# Altium integrated library TI Power Management Battery Management.IntLib: 949 symbols (part 58 of 62)
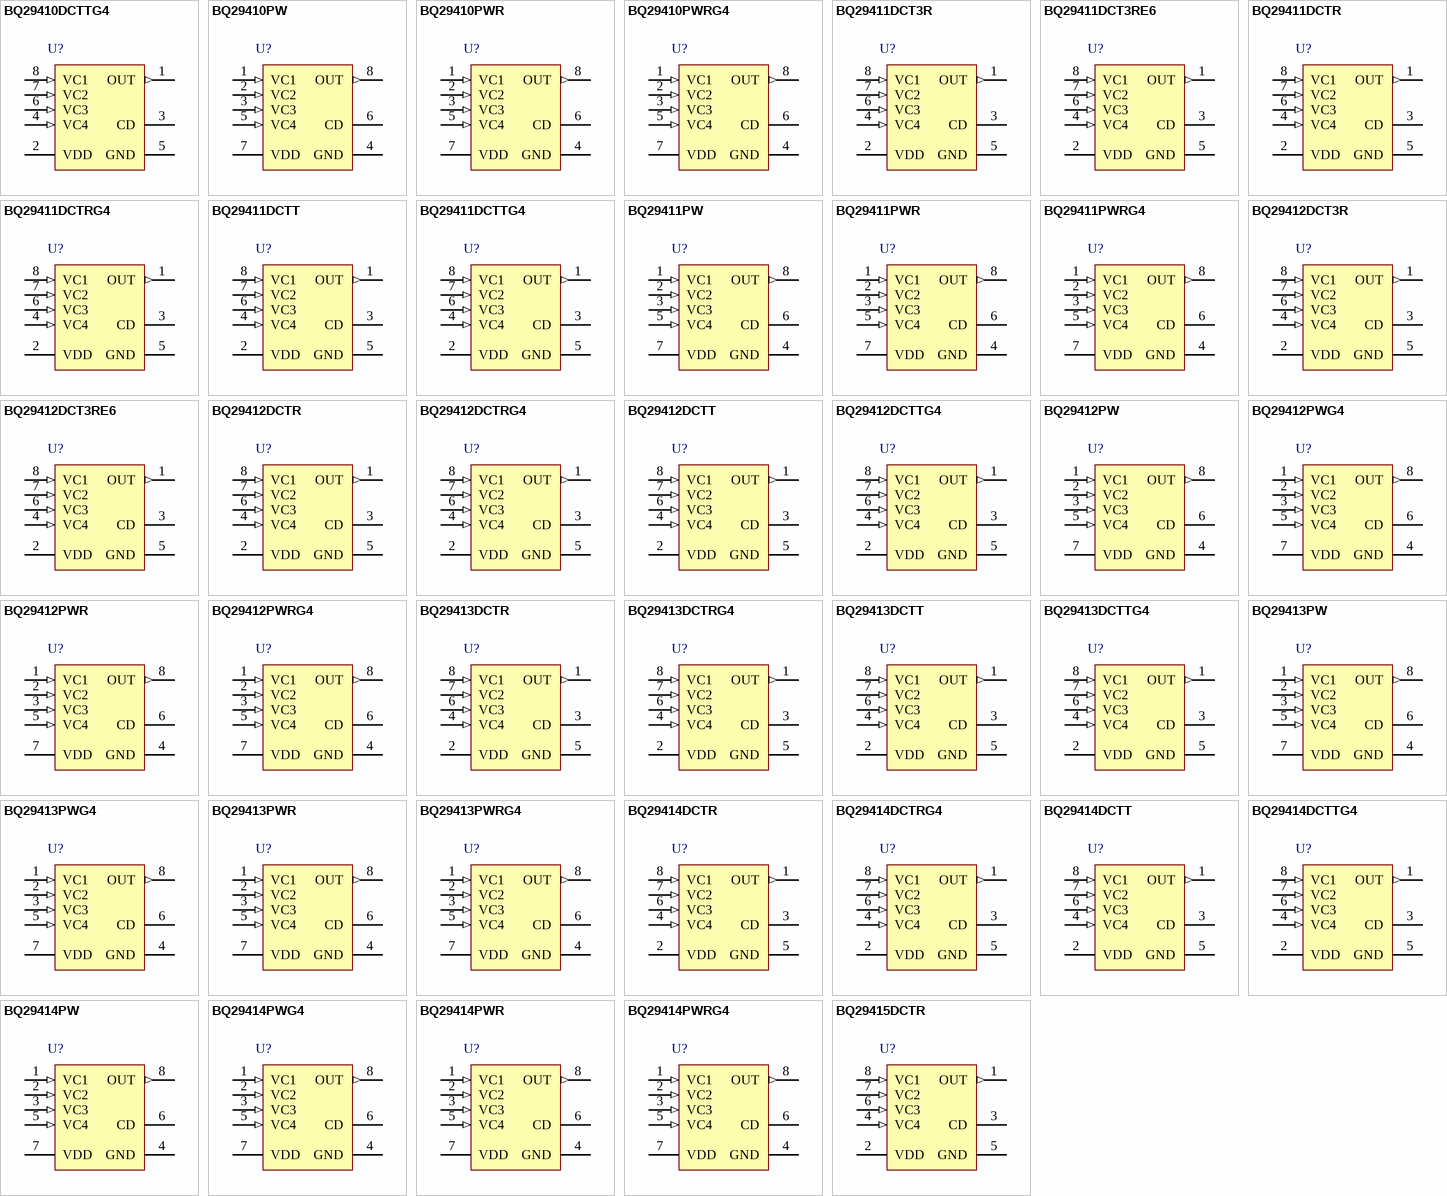
[diagram p91: symbols BQ29410DCTTG4 to BQ29415DCTR]

## BQ29412DCT3RE6
designator U?
Secondary Over Voltage Protection for 2 to 4 Cell in Series Li-Ion / Poly (4.45 V), -40 to 110 degC, 8-pin SM8 (DCT), Pb-Free (RoHS); PartNumber: BQ29412DCT3RE6; Manufacturer: Texas Instruments; Lead Acid: N; Li-Ion: Y; SubFamily: Lithium Ion Protection; DatasheetVersion: SLUS669G; PackageVersion: revC, Sep-2002; PackageReference: DCT8; PackageDescription: 8-Pin Thin Small Outline Package 3 x 2.8 mm Body ,0.65 mm Pitch; Supplier 1: Digi-Key; Supplier Part Number 1: BQ29412DCT3RE6-ND; Supplier 2: Newark; Supplier Part Number 2: 30M3435; Supplier 3: Mouser; Supplier Part Number 3: 595-BQ29412DCT3RE6; Eco-Plan: Pb-Free (RoHS); Li-Polymer: Y; NiCd: N; NiMH: N; Over Voltage Protection: Y; Mounting Technology: Surface Mount; Code_JEDEC: MO-187-DA; ComponentLink1Description: Datasheet; ComponentLink1URL: http://www.ti.com/general/docs/lit/getliterature.tsp?genericPartNumber=BQ29412&fileType=pdf
footprint DCT8_N (TSOP, 8-Leads, Body 3x2.8mm, Pitch 0.65mm, IPC Medium Density)
footprint DCT8_L (TSOP, 8-Leads, Body 3x2.8mm, Pitch 0.65mm, IPC High Density)
footprint DCT8_M (TSOP, 8-Leads, Body 3x2.8mm, Pitch 0.65mm, IPC Low Density)
pins: 1 OUT (out) "Output", 2 VDD (power) "Power supply", 3 CD "An external capacitor is connected to determine the programmable delay time", 4 VC4 (in) "Sense voltage input for least positive cell", 5 GND (power) "Ground pin", 6 VC3 (in) "Sense voltage input for third most positive cell", 7 VC2 (in) "Sense voltage input for second most positive cell", 8 VC1 (in) "Sense voltage input for most positive cell"

## BQ29412DCTR
designator U?
Secondary Over Voltage Protection for 2 to 4 Cell in Series Li-Ion / Poly (4.45 V), -40 to 110 degC, 8-pin SM8 (DCT), Green (RoHS & no Sb/Br); PartNumber: BQ29412DCTR; Manufacturer: Texas Instruments; Lead Acid: N; Li-Ion: Y; SubFamily: Lithium Ion Protection; DatasheetVersion: SLUS669G; PackageVersion: revC, Sep-2002; PackageReference: DCT8; PackageDescription: 8-Pin Thin Small Outline Package 3 x 2.8 mm Body ,0.65 mm Pitch; Supplier 1: Digi-Key; Supplier Part Number 1: 296-21723-2-ND; Supplier 2: Digi-Key; Supplier Part Number 2: 296-21723-1-ND; Supplier 3: Digi-Key; Supplier Part Number 3: 296-21723-6-ND; Supplier 4: Newark; Supplier Part Number 4: 21M9466; Supplier 5: Mouser; Supplier Part Number 5: 595-BQ29412DCTR; Eco-Plan: Green (RoHS & no Sb/Br); Li-Polymer: Y; NiCd: N; NiMH: N; Over Voltage Protection: Y; Mounting Technology: Surface Mount; Code_JEDEC: MO-187-DA; ComponentLink1Description: Datasheet; ComponentLink1URL: http://www.ti.com/general/docs/lit/getliterature.tsp?genericPartNumber=BQ29412&fileType=pdf
footprint DCT8_N (TSOP, 8-Leads, Body 3x2.8mm, Pitch 0.65mm, IPC Medium Density)
footprint DCT8_L (TSOP, 8-Leads, Body 3x2.8mm, Pitch 0.65mm, IPC High Density)
footprint DCT8_M (TSOP, 8-Leads, Body 3x2.8mm, Pitch 0.65mm, IPC Low Density)
pins: 1 OUT (out) "Output", 2 VDD (power) "Power supply", 3 CD "An external capacitor is connected to determine the programmable delay time", 4 VC4 (in) "Sense voltage input for least positive cell", 5 GND (power) "Ground pin", 6 VC3 (in) "Sense voltage input for third most positive cell", 7 VC2 (in) "Sense voltage input for second most positive cell", 8 VC1 (in) "Sense voltage input for most positive cell"

## BQ29412DCTRG4
designator U?
Secondary Over Voltage Protection for 2 to 4 Cell in Series Li-Ion / Poly (4.45 V), -40 to 110 degC, 8-pin SM8 (DCT), Green (RoHS & no Sb/Br); PartNumber: BQ29412DCTRG4; Manufacturer: Texas Instruments; Lead Acid: N; Li-Ion: Y; SubFamily: Lithium Ion Protection; DatasheetVersion: SLUS669G; PackageVersion: revC, Sep-2002; PackageReference: DCT8; PackageDescription: 8-Pin Thin Small Outline Package 3 x 2.8 mm Body ,0.65 mm Pitch; Supplier 1: Digi-Key; Supplier Part Number 1: BQ29412DCTRG4-ND; Supplier 2: Newark; Supplier Part Number 2: 27M2190; Supplier 3: Mouser; Supplier Part Number 3: 595-BQ29412DCTRG4; Eco-Plan: Green (RoHS & no Sb/Br); Li-Polymer: Y; NiCd: N; NiMH: N; Over Voltage Protection: Y; Mounting Technology: Surface Mount; Code_JEDEC: MO-187-DA; ComponentLink1Description: Datasheet; ComponentLink1URL: http://www.ti.com/general/docs/lit/getliterature.tsp?genericPartNumber=BQ29412&fileType=pdf
footprint DCT8_N (TSOP, 8-Leads, Body 3x2.8mm, Pitch 0.65mm, IPC Medium Density)
footprint DCT8_L (TSOP, 8-Leads, Body 3x2.8mm, Pitch 0.65mm, IPC High Density)
footprint DCT8_M (TSOP, 8-Leads, Body 3x2.8mm, Pitch 0.65mm, IPC Low Density)
pins: 1 OUT (out) "Output", 2 VDD (power) "Power supply", 3 CD "An external capacitor is connected to determine the programmable delay time", 4 VC4 (in) "Sense voltage input for least positive cell", 5 GND (power) "Ground pin", 6 VC3 (in) "Sense voltage input for third most positive cell", 7 VC2 (in) "Sense voltage input for second most positive cell", 8 VC1 (in) "Sense voltage input for most positive cell"

## BQ29412DCTT
designator U?
Secondary Over Voltage Protection for 2 to 4 Cell in Series Li-Ion / Poly (4.45 V), -40 to 110 degC, 8-pin SM8 (DCT), Green (RoHS & no Sb/Br); PartNumber: BQ29412DCTT; Manufacturer: Texas Instruments; Lead Acid: N; Li-Ion: Y; SubFamily: Lithium Ion Protection; DatasheetVersion: SLUS669G; PackageVersion: revC, Sep-2002; PackageReference: DCT8; PackageDescription: 8-Pin Thin Small Outline Package 3 x 2.8 mm Body ,0.65 mm Pitch; Supplier 1: Digi-Key; Supplier Part Number 1: 296-32040-2-ND; Supplier 2: Digi-Key; Supplier Part Number 2: 296-32040-1-ND; Supplier 3: Digi-Key; Supplier Part Number 3: 296-32040-6-ND; Supplier 4: Newark; Supplier Part Number 4: 21M9467; Supplier 5: Mouser; Supplier Part Number 5: 595-BQ29412DCTT; Eco-Plan: Green (RoHS & no Sb/Br); Li-Polymer: Y; NiCd: N; NiMH: N; Over Voltage Protection: Y; Mounting Technology: Surface Mount; Code_JEDEC: MO-187-DA; ComponentLink1Description: Datasheet; ComponentLink1URL: http://www.ti.com/general/docs/lit/getliterature.tsp?genericPartNumber=BQ29412&fileType=pdf
footprint DCT8_N (TSOP, 8-Leads, Body 3x2.8mm, Pitch 0.65mm, IPC Medium Density)
footprint DCT8_L (TSOP, 8-Leads, Body 3x2.8mm, Pitch 0.65mm, IPC High Density)
footprint DCT8_M (TSOP, 8-Leads, Body 3x2.8mm, Pitch 0.65mm, IPC Low Density)
pins: 1 OUT (out) "Output", 2 VDD (power) "Power supply", 3 CD "An external capacitor is connected to determine the programmable delay time", 4 VC4 (in) "Sense voltage input for least positive cell", 5 GND (power) "Ground pin", 6 VC3 (in) "Sense voltage input for third most positive cell", 7 VC2 (in) "Sense voltage input for second most positive cell", 8 VC1 (in) "Sense voltage input for most positive cell"

## BQ29412DCTTG4
designator U?
Secondary Over Voltage Protection for 2 to 4 Cell in Series Li-Ion / Poly (4.45 V), -40 to 110 degC, 8-pin SM8 (DCT), Green (RoHS & no Sb/Br); PartNumber: BQ29412DCTTG4; Manufacturer: Texas Instruments; Lead Acid: N; Li-Ion: Y; SubFamily: Lithium Ion Protection; DatasheetVersion: SLUS669G; PackageVersion: revC, Sep-2002; PackageReference: DCT8; PackageDescription: 8-Pin Thin Small Outline Package 3 x 2.8 mm Body ,0.65 mm Pitch; Supplier 1: Digi-Key; Supplier Part Number 1: BQ29412DCTTG4-ND; Supplier 2: Newark; Supplier Part Number 2: 26M8964; Supplier 3: Mouser; Supplier Part Number 3: 595-BQ29412DCTTG4; Eco-Plan: Green (RoHS & no Sb/Br); Li-Polymer: Y; NiCd: N; NiMH: N; Over Voltage Protection: Y; Mounting Technology: Surface Mount; Code_JEDEC: MO-187-DA; ComponentLink1Description: Datasheet; ComponentLink1URL: http://www.ti.com/general/docs/lit/getliterature.tsp?genericPartNumber=BQ29412&fileType=pdf
footprint DCT8_N (TSOP, 8-Leads, Body 3x2.8mm, Pitch 0.65mm, IPC Medium Density)
footprint DCT8_L (TSOP, 8-Leads, Body 3x2.8mm, Pitch 0.65mm, IPC High Density)
footprint DCT8_M (TSOP, 8-Leads, Body 3x2.8mm, Pitch 0.65mm, IPC Low Density)
pins: 1 OUT (out) "Output", 2 VDD (power) "Power supply", 3 CD "An external capacitor is connected to determine the programmable delay time", 4 VC4 (in) "Sense voltage input for least positive cell", 5 GND (power) "Ground pin", 6 VC3 (in) "Sense voltage input for third most positive cell", 7 VC2 (in) "Sense voltage input for second most positive cell", 8 VC1 (in) "Sense voltage input for most positive cell"

## BQ29412PW
designator U?
Secondary Over Voltage Protection for 2 to 4 Cell in Series Li-Ion / Poly (4.45 V), -40 to 110 degC, 8-pin TSSOP (PW), Green (RoHS & no Sb/Br); PartNumber: BQ29412PW; Manufacturer: Texas Instruments; Lead Acid: N; Li-Ion: Y; SubFamily: Lithium Ion Protection; DatasheetVersion: SLUS669G; PackageVersion: revG, Feb-2011; PackageReference: PW8; PackageDescription: 8-Pin Plastic Thin Small Outline Package 3 x 4.4 mm Body ,0.65 mm Pitch; Supplier 1: Digi-Key; Supplier Part Number 1: 296-19456-5-ND; Supplier 2: Newark; Supplier Part Number 2: 80K5711; Supplier 3: Mouser; Supplier Part Number 3: 595-BQ29412PW; Eco-Plan: Green (RoHS & no Sb/Br); Li-Polymer: Y; NiCd: N; NiMH: N; Over Voltage Protection: Y; Mounting Technology: Surface Mount; Code_JEDEC: MO-153; ComponentLink1Description: Datasheet; ComponentLink1URL: http://www.ti.com/general/docs/lit/getliterature.tsp?genericPartNumber=BQ29412&fileType=pdf
footprint PW8_N (TSOP, 8-Leads, Body 3x4.4mm, Pitch 0.65mm, IPC Medium Density)
footprint PW8_L (TSOP, 8-Leads, Body 3x4.4mm, Pitch 0.65mm, IPC High Density)
footprint PW8_M (TSOP, 8-Leads, Body 3x4.4mm, Pitch 0.65mm, IPC Low Density)
pins: 1 VC1 (in) "Sense voltage input for most positive cell", 2 VC2 (in) "Sense voltage input for second most positive cell", 3 VC3 (in) "Sense voltage input for third most positive cell", 4 GND (power) "Ground pin", 5 VC4 (in) "Sense voltage input for least positive cell", 6 CD "An external capacitor is connected to determine the programmable delay time", 7 VDD (power) "Power supply", 8 OUT (out) "Output"

## BQ29412PWG4
designator U?
Secondary Over Voltage Protection for 2 to 4 Cell in Series Li-Ion / Poly (4.45 V), -40 to 110 degC, 8-pin TSSOP (PW), Green (RoHS & no Sb/Br); PartNumber: BQ29412PWG4; Manufacturer: Texas Instruments; Lead Acid: N; Li-Ion: Y; SubFamily: Lithium Ion Protection; DatasheetVersion: SLUS669G; PackageVersion: revG, Feb-2011; PackageReference: PW8; PackageDescription: 8-Pin Plastic Thin Small Outline Package 3 x 4.4 mm Body ,0.65 mm Pitch; Supplier 1: Digi-Key; Supplier Part Number 1: BQ29412PWG4-ND; Supplier 2: Newark; Supplier Part Number 2: 84K0861; Supplier 3: Mouser; Supplier Part Number 3: 595-BQ29412PWG4; Eco-Plan: Green (RoHS & no Sb/Br); Li-Polymer: Y; NiCd: N; NiMH: N; Over Voltage Protection: Y; Mounting Technology: Surface Mount; Code_JEDEC: MO-153; ComponentLink1Description: Datasheet; ComponentLink1URL: http://www.ti.com/general/docs/lit/getliterature.tsp?genericPartNumber=BQ29412&fileType=pdf
footprint PW8_N (TSOP, 8-Leads, Body 3x4.4mm, Pitch 0.65mm, IPC Medium Density)
footprint PW8_L (TSOP, 8-Leads, Body 3x4.4mm, Pitch 0.65mm, IPC High Density)
footprint PW8_M (TSOP, 8-Leads, Body 3x4.4mm, Pitch 0.65mm, IPC Low Density)
pins: 1 VC1 (in) "Sense voltage input for most positive cell", 2 VC2 (in) "Sense voltage input for second most positive cell", 3 VC3 (in) "Sense voltage input for third most positive cell", 4 GND (power) "Ground pin", 5 VC4 (in) "Sense voltage input for least positive cell", 6 CD "An external capacitor is connected to determine the programmable delay time", 7 VDD (power) "Power supply", 8 OUT (out) "Output"

## BQ29412PWR
designator U?
Secondary Over Voltage Protection for 2 to 4 Cell in Series Li-Ion / Poly (4.45 V), 8-pin TSSOP (PW), Green (RoHS & no Sb/Br); PartNumber: BQ29412PWR; Manufacturer: Texas Instruments; Lead Acid: N; Li-Ion: Y; SubFamily: Lithium Ion Protection; DatasheetVersion: SLUS669G; PackageVersion: revG, Feb-2011; PackageReference: PW8; PackageDescription: 8-Pin Plastic Thin Small Outline Package 3 x 4.4 mm Body ,0.65 mm Pitch; Supplier 1: Digi-Key; Supplier Part Number 1: 296-31473-2-ND; Supplier 2: Digi-Key; Supplier Part Number 2: 296-31473-1-ND; Supplier 3: Digi-Key; Supplier Part Number 3: 296-31473-6-ND; Supplier 4: Newark; Supplier Part Number 4: 80K5712; Supplier 5: Mouser; Supplier Part Number 5: 595-BQ29412PWR; Eco-Plan: Green (RoHS & no Sb/Br); Li-Polymer: Y; NiCd: N; NiMH: N; Over Voltage Protection: Y; Mounting Technology: Surface Mount; Code_JEDEC: MO-153; ComponentLink1Description: Datasheet; ComponentLink1URL: http://www.ti.com/general/docs/lit/getliterature.tsp?genericPartNumber=BQ29412&fileType=pdf
footprint PW8_N (TSOP, 8-Leads, Body 3x4.4mm, Pitch 0.65mm, IPC Medium Density)
footprint PW8_L (TSOP, 8-Leads, Body 3x4.4mm, Pitch 0.65mm, IPC High Density)
footprint PW8_M (TSOP, 8-Leads, Body 3x4.4mm, Pitch 0.65mm, IPC Low Density)
pins: 1 VC1 (in) "Sense voltage input for most positive cell", 2 VC2 (in) "Sense voltage input for second most positive cell", 3 VC3 (in) "Sense voltage input for third most positive cell", 4 GND (power) "Ground pin", 5 VC4 (in) "Sense voltage input for least positive cell", 6 CD "An external capacitor is connected to determine the programmable delay time", 7 VDD (power) "Power supply", 8 OUT (out) "Output"

## BQ29412PWRG4
designator U?
Secondary Over Voltage Protection for 2 to 4 Cell in Series Li-Ion / Poly (4.45 V), 8-pin TSSOP (PW), Green (RoHS & no Sb/Br); PartNumber: BQ29412PWRG4; Manufacturer: Texas Instruments; Lead Acid: N; Li-Ion: Y; SubFamily: Lithium Ion Protection; DatasheetVersion: SLUS669G; PackageVersion: revG, Feb-2011; PackageReference: PW8; PackageDescription: 8-Pin Plastic Thin Small Outline Package 3 x 4.4 mm Body ,0.65 mm Pitch; Supplier 1: Digi-Key; Supplier Part Number 1: 296-21724-2-ND; Supplier 2: Digi-Key; Supplier Part Number 2: 296-21724-1-ND; Supplier 3: Digi-Key; Supplier Part Number 3: 296-21724-6-ND; Supplier 4: Newark; Supplier Part Number 4: 84K0862; Supplier 5: Mouser; Supplier Part Number 5: 595-BQ29412PWRG4; Eco-Plan: Green (RoHS & no Sb/Br); Li-Polymer: Y; NiCd: N; NiMH: N; Over Voltage Protection: Y; Mounting Technology: Surface Mount; Code_JEDEC: MO-153; ComponentLink1Description: Datasheet; ComponentLink1URL: http://www.ti.com/general/docs/lit/getliterature.tsp?genericPartNumber=BQ29412&fileType=pdf
footprint PW8_N (TSOP, 8-Leads, Body 3x4.4mm, Pitch 0.65mm, IPC Medium Density)
footprint PW8_L (TSOP, 8-Leads, Body 3x4.4mm, Pitch 0.65mm, IPC High Density)
footprint PW8_M (TSOP, 8-Leads, Body 3x4.4mm, Pitch 0.65mm, IPC Low Density)
pins: 1 VC1 (in) "Sense voltage input for most positive cell", 2 VC2 (in) "Sense voltage input for second most positive cell", 3 VC3 (in) "Sense voltage input for third most positive cell", 4 GND (power) "Ground pin", 5 VC4 (in) "Sense voltage input for least positive cell", 6 CD "An external capacitor is connected to determine the programmable delay time", 7 VDD (power) "Power supply", 8 OUT (out) "Output"

## BQ29413DCTR
designator U?
Secondary Over Voltage Protection for 2 to 4 Cell in Series Li-Ion / Poly (4.50 V), -40 to 110 degC, 8-pin SM8 (DCT), Green (RoHS & no Sb/Br); PartNumber: BQ29413DCTR; Manufacturer: Texas Instruments; Lead Acid: N; Over Voltage Protection: Y; SubFamily: Lithium Ion Protection; DatasheetVersion: SLUS669G; PackageVersion: revC, Sep-2002; PackageReference: DCT8; PackageDescription: 8-Pin Thin Small Outline Package 3 x 2.8 mm Body ,0.65 mm Pitch; Supplier 1: Digi-Key; Supplier Part Number 1: 296-21328-2-ND; Supplier 2: Digi-Key; Supplier Part Number 2: 296-21328-1-ND; Supplier 3: Digi-Key; Supplier Part Number 3: 296-21328-6-ND; Supplier 4: Newark; Supplier Part Number 4: 21M9468; Supplier 5: Mouser; Supplier Part Number 5: 595-BQ29413DCTR; Eco-Plan: Green (RoHS & no Sb/Br); Li-Ion: N; Li-Polymer: N; NiCd: N; NiMH: N; Mounting Technology: Surface Mount; Code_JEDEC: MO-187-DA; ComponentLink1Description: Datasheet; ComponentLink1URL: http://www.ti.com/general/docs/lit/getliterature.tsp?genericPartNumber=BQ29413&fileType=pdf
footprint DCT8_N (TSOP, 8-Leads, Body 3x2.8mm, Pitch 0.65mm, IPC Medium Density)
footprint DCT8_L (TSOP, 8-Leads, Body 3x2.8mm, Pitch 0.65mm, IPC High Density)
footprint DCT8_M (TSOP, 8-Leads, Body 3x2.8mm, Pitch 0.65mm, IPC Low Density)
pins: 1 OUT (out) "Output", 2 VDD (power) "Power supply", 3 CD "An external capacitor is connected to determine the programmable delay time", 4 VC4 (in) "Sense voltage input for least positive cell", 5 GND (power) "Ground pin", 6 VC3 (in) "Sense voltage input for third most positive cell", 7 VC2 (in) "Sense voltage input for second most positive cell", 8 VC1 (in) "Sense voltage input for most positive cell"

## BQ29413DCTRG4
designator U?
Secondary Over Voltage Protection for 2 to 4 Cell in Series Li-Ion / Poly (4.50 V), -40 to 110 degC, 8-pin SM8 (DCT), Green (RoHS & no Sb/Br); PartNumber: BQ29413DCTRG4; Manufacturer: Texas Instruments; Lead Acid: N; Over Voltage Protection: Y; SubFamily: Lithium Ion Protection; DatasheetVersion: SLUS669G; PackageVersion: revC, Sep-2002; PackageReference: DCT8; PackageDescription: 8-Pin Thin Small Outline Package 3 x 2.8 mm Body ,0.65 mm Pitch; Supplier 1: Digi-Key; Supplier Part Number 1: BQ29413DCTRG4-ND; Supplier 2: Newark; Supplier Part Number 2: 27M2191; Supplier 3: Mouser; Supplier Part Number 3: 595-BQ29413DCTRG4; Eco-Plan: Green (RoHS & no Sb/Br); Li-Ion: N; Li-Polymer: N; NiCd: N; NiMH: N; Mounting Technology: Surface Mount; Code_JEDEC: MO-187-DA; ComponentLink1Description: Datasheet; ComponentLink1URL: http://www.ti.com/general/docs/lit/getliterature.tsp?genericPartNumber=BQ29413&fileType=pdf
footprint DCT8_N (TSOP, 8-Leads, Body 3x2.8mm, Pitch 0.65mm, IPC Medium Density)
footprint DCT8_L (TSOP, 8-Leads, Body 3x2.8mm, Pitch 0.65mm, IPC High Density)
footprint DCT8_M (TSOP, 8-Leads, Body 3x2.8mm, Pitch 0.65mm, IPC Low Density)
pins: 1 OUT (out) "Output", 2 VDD (power) "Power supply", 3 CD "An external capacitor is connected to determine the programmable delay time", 4 VC4 (in) "Sense voltage input for least positive cell", 5 GND (power) "Ground pin", 6 VC3 (in) "Sense voltage input for third most positive cell", 7 VC2 (in) "Sense voltage input for second most positive cell", 8 VC1 (in) "Sense voltage input for most positive cell"

## BQ29413DCTT
designator U?
Secondary Over Voltage Protection for 2 to 4 Cell in Series Li-Ion / Poly (4.50 V), -40 to 110 degC, 8-pin SM8 (DCT), Green (RoHS & no Sb/Br); PartNumber: BQ29413DCTT; Manufacturer: Texas Instruments; Lead Acid: N; Over Voltage Protection: Y; SubFamily: Lithium Ion Protection; DatasheetVersion: SLUS669G; PackageVersion: revC, Sep-2002; PackageReference: DCT8; PackageDescription: 8-Pin Thin Small Outline Package 3 x 2.8 mm Body ,0.65 mm Pitch; Supplier 1: Digi-Key; Supplier Part Number 1: 296-32041-2-ND; Supplier 2: Digi-Key; Supplier Part Number 2: 296-32041-1-ND; Supplier 3: Digi-Key; Supplier Part Number 3: 296-32041-6-ND; Supplier 4: Mouser; Supplier Part Number 4: 595-BQ29413DCTT; Eco-Plan: Green (RoHS & no Sb/Br); Li-Ion: N; Li-Polymer: N; NiCd: N; NiMH: N; Mounting Technology: Surface Mount; Code_JEDEC: MO-187-DA; ComponentLink1Description: Datasheet; ComponentLink1URL: http://www.ti.com/general/docs/lit/getliterature.tsp?genericPartNumber=BQ29413&fileType=pdf
footprint DCT8_N (TSOP, 8-Leads, Body 3x2.8mm, Pitch 0.65mm, IPC Medium Density)
footprint DCT8_L (TSOP, 8-Leads, Body 3x2.8mm, Pitch 0.65mm, IPC High Density)
footprint DCT8_M (TSOP, 8-Leads, Body 3x2.8mm, Pitch 0.65mm, IPC Low Density)
pins: 1 OUT (out) "Output", 2 VDD (power) "Power supply", 3 CD "An external capacitor is connected to determine the programmable delay time", 4 VC4 (in) "Sense voltage input for least positive cell", 5 GND (power) "Ground pin", 6 VC3 (in) "Sense voltage input for third most positive cell", 7 VC2 (in) "Sense voltage input for second most positive cell", 8 VC1 (in) "Sense voltage input for most positive cell"

## BQ29413DCTTG4
designator U?
Secondary Over Voltage Protection for 2 to 4 Cell in Series Li-Ion / Poly (4.50 V), -40 to 110 degC, 8-pin SM8 (DCT), Green (RoHS & no Sb/Br); PartNumber: BQ29413DCTTG4; Manufacturer: Texas Instruments; Lead Acid: N; Over Voltage Protection: Y; SubFamily: Lithium Ion Protection; DatasheetVersion: SLUS669G; PackageVersion: revC, Sep-2002; PackageReference: DCT8; PackageDescription: 8-Pin Thin Small Outline Package 3 x 2.8 mm Body ,0.65 mm Pitch; Supplier 1: Digi-Key; Supplier Part Number 1: BQ29413DCTTG4-ND; Supplier 2: Mouser; Supplier Part Number 2: 595-BQ29413DCTTG4; Eco-Plan: Green (RoHS & no Sb/Br); Li-Ion: N; Li-Polymer: N; NiCd: N; NiMH: N; Mounting Technology: Surface Mount; Code_JEDEC: MO-187-DA; ComponentLink1Description: Datasheet; ComponentLink1URL: http://www.ti.com/general/docs/lit/getliterature.tsp?genericPartNumber=BQ29413&fileType=pdf
footprint DCT8_N (TSOP, 8-Leads, Body 3x2.8mm, Pitch 0.65mm, IPC Medium Density)
footprint DCT8_L (TSOP, 8-Leads, Body 3x2.8mm, Pitch 0.65mm, IPC High Density)
footprint DCT8_M (TSOP, 8-Leads, Body 3x2.8mm, Pitch 0.65mm, IPC Low Density)
pins: 1 OUT (out) "Output", 2 VDD (power) "Power supply", 3 CD "An external capacitor is connected to determine the programmable delay time", 4 VC4 (in) "Sense voltage input for least positive cell", 5 GND (power) "Ground pin", 6 VC3 (in) "Sense voltage input for third most positive cell", 7 VC2 (in) "Sense voltage input for second most positive cell", 8 VC1 (in) "Sense voltage input for most positive cell"

## BQ29413PW
designator U?
Secondary Over Voltage Protection for 2 to 4 Cell in Series Li-Ion / Poly (4.50 V), -40 to 110 degC, 8-pin TSSOP (PW), Green (RoHS & no Sb/Br); PartNumber: BQ29413PW; Manufacturer: Texas Instruments; Lead Acid: N; Over Voltage Protection: Y; SubFamily: Lithium Ion Protection; DatasheetVersion: SLUS669G; PackageVersion: revG, Feb-2011; PackageReference: PW8; PackageDescription: 8-Pin Plastic Thin Small Outline Package 3 x 4.4 mm Body ,0.65 mm Pitch; Supplier 1: Digi-Key; Supplier Part Number 1: BQ29413PW-ND; Supplier 2: Mouser; Supplier Part Number 2: 595-BQ29413PW; Eco-Plan: Green (RoHS & no Sb/Br); Li-Ion: N; Li-Polymer: N; NiCd: N; NiMH: N; Mounting Technology: Surface Mount; Code_JEDEC: MO-153; ComponentLink1Description: Datasheet; ComponentLink1URL: http://www.ti.com/general/docs/lit/getliterature.tsp?genericPartNumber=BQ29413&fileType=pdf
footprint PW8_N (TSOP, 8-Leads, Body 3x4.4mm, Pitch 0.65mm, IPC Medium Density)
footprint PW8_L (TSOP, 8-Leads, Body 3x4.4mm, Pitch 0.65mm, IPC High Density)
footprint PW8_M (TSOP, 8-Leads, Body 3x4.4mm, Pitch 0.65mm, IPC Low Density)
pins: 1 VC1 (in) "Sense voltage input for most positive cell", 2 VC2 (in) "Sense voltage input for second most positive cell", 3 VC3 (in) "Sense voltage input for third most positive cell", 4 GND (power) "Ground pin", 5 VC4 (in) "Sense voltage input for least positive cell", 6 CD "An external capacitor is connected to determine the programmable delay time", 7 VDD (power) "Power supply", 8 OUT (out) "Output"

## BQ29413PWG4
designator U?
Secondary Over Voltage Protection for 2 to 4 Cell in Series Li-Ion / Poly (4.50 V), -40 to 110 degC, 8-pin TSSOP (PW), Green (RoHS & no Sb/Br); PartNumber: BQ29413PWG4; Manufacturer: Texas Instruments; Lead Acid: N; Over Voltage Protection: Y; SubFamily: Lithium Ion Protection; DatasheetVersion: SLUS669G; PackageVersion: revG, Feb-2011; PackageReference: PW8; PackageDescription: 8-Pin Plastic Thin Small Outline Package 3 x 4.4 mm Body ,0.65 mm Pitch; Supplier 1: Digi-Key; Supplier Part Number 1: BQ29413PWG4-ND; Supplier 2: Mouser; Supplier Part Number 2: 595-BQ29413PWG4; Eco-Plan: Green (RoHS & no Sb/Br); Li-Ion: N; Li-Polymer: N; NiCd: N; NiMH: N; Mounting Technology: Surface Mount; Code_JEDEC: MO-153; ComponentLink1Description: Datasheet; ComponentLink1URL: http://www.ti.com/general/docs/lit/getliterature.tsp?genericPartNumber=BQ29413&fileType=pdf
footprint PW8_N (TSOP, 8-Leads, Body 3x4.4mm, Pitch 0.65mm, IPC Medium Density)
footprint PW8_L (TSOP, 8-Leads, Body 3x4.4mm, Pitch 0.65mm, IPC High Density)
footprint PW8_M (TSOP, 8-Leads, Body 3x4.4mm, Pitch 0.65mm, IPC Low Density)
pins: 1 VC1 (in) "Sense voltage input for most positive cell", 2 VC2 (in) "Sense voltage input for second most positive cell", 3 VC3 (in) "Sense voltage input for third most positive cell", 4 GND (power) "Ground pin", 5 VC4 (in) "Sense voltage input for least positive cell", 6 CD "An external capacitor is connected to determine the programmable delay time", 7 VDD (power) "Power supply", 8 OUT (out) "Output"

## BQ29413PWR
designator U?
Secondary Over Voltage Protection for 2 to 4 Cell in Series Li-Ion / Poly (4.50 V), -40 to 110 degC, 8-pin TSSOP (PW), Green (RoHS & no Sb/Br); PartNumber: BQ29413PWR; Manufacturer: Texas Instruments; Lead Acid: N; Over Voltage Protection: Y; SubFamily: Lithium Ion Protection; DatasheetVersion: SLUS669G; PackageVersion: revG, Feb-2011; PackageReference: PW8; PackageDescription: 8-Pin Plastic Thin Small Outline Package 3 x 4.4 mm Body ,0.65 mm Pitch; Supplier 1: Digi-Key; Supplier Part Number 1: 296-21329-2-ND; Supplier 2: Digi-Key; Supplier Part Number 2: 296-21329-1-ND; Supplier 3: Digi-Key; Supplier Part Number 3: 296-21329-6-ND; Supplier 4: Newark; Supplier Part Number 4: 21M9471; Supplier 5: Mouser; Supplier Part Number 5: 595-BQ29413PWR; Eco-Plan: Green (RoHS & no Sb/Br); Li-Ion: N; Li-Polymer: N; NiCd: N; NiMH: N; Mounting Technology: Surface Mount; Code_JEDEC: MO-153; ComponentLink1Description: Datasheet; ComponentLink1URL: http://www.ti.com/general/docs/lit/getliterature.tsp?genericPartNumber=BQ29413&fileType=pdf
footprint PW8_N (TSOP, 8-Leads, Body 3x4.4mm, Pitch 0.65mm, IPC Medium Density)
footprint PW8_L (TSOP, 8-Leads, Body 3x4.4mm, Pitch 0.65mm, IPC High Density)
footprint PW8_M (TSOP, 8-Leads, Body 3x4.4mm, Pitch 0.65mm, IPC Low Density)
pins: 1 VC1 (in) "Sense voltage input for most positive cell", 2 VC2 (in) "Sense voltage input for second most positive cell", 3 VC3 (in) "Sense voltage input for third most positive cell", 4 GND (power) "Ground pin", 5 VC4 (in) "Sense voltage input for least positive cell", 6 CD "An external capacitor is connected to determine the programmable delay time", 7 VDD (power) "Power supply", 8 OUT (out) "Output"

## BQ29413PWRG4
designator U?
Secondary Over Voltage Protection for 2 to 4 Cell in Series Li-Ion / Poly (4.50 V), -40 to 110 degC, 8-pin TSSOP (PW), Green (RoHS & no Sb/Br); PartNumber: BQ29413PWRG4; Manufacturer: Texas Instruments; Lead Acid: N; Over Voltage Protection: Y; SubFamily: Lithium Ion Protection; DatasheetVersion: SLUS669G; PackageVersion: revG, Feb-2011; PackageReference: PW8; PackageDescription: 8-Pin Plastic Thin Small Outline Package 3 x 4.4 mm Body ,0.65 mm Pitch; Supplier 1: Digi-Key; Supplier Part Number 1: BQ29413PWRG4-ND; Supplier 2: Newark; Supplier Part Number 2: 27M2194; Supplier 3: Mouser; Supplier Part Number 3: 595-BQ29413PWRG4; Eco-Plan: Green (RoHS & no Sb/Br); Li-Ion: N; Li-Polymer: N; NiCd: N; NiMH: N; Mounting Technology: Surface Mount; Code_JEDEC: MO-153; ComponentLink1Description: Datasheet; ComponentLink1URL: http://www.ti.com/general/docs/lit/getliterature.tsp?genericPartNumber=BQ29413&fileType=pdf
footprint PW8_N (TSOP, 8-Leads, Body 3x4.4mm, Pitch 0.65mm, IPC Medium Density)
footprint PW8_L (TSOP, 8-Leads, Body 3x4.4mm, Pitch 0.65mm, IPC High Density)
footprint PW8_M (TSOP, 8-Leads, Body 3x4.4mm, Pitch 0.65mm, IPC Low Density)
pins: 1 VC1 (in) "Sense voltage input for most positive cell", 2 VC2 (in) "Sense voltage input for second most positive cell", 3 VC3 (in) "Sense voltage input for third most positive cell", 4 GND (power) "Ground pin", 5 VC4 (in) "Sense voltage input for least positive cell", 6 CD "An external capacitor is connected to determine the programmable delay time", 7 VDD (power) "Power supply", 8 OUT (out) "Output"

## BQ29414DCTR
designator U?
Secondary Over-Voltage Protection for 2 to 4 Cell in Series Li-Ion / Poly (4.55 V), -40 to 110 degC, 8-pin SM8 (DCT), Green (RoHS & no Sb/Br); PartNumber: BQ29414DCTR; Manufacturer: Texas Instruments; Lead Acid: N; Li-Ion: Y; SubFamily: Lithium Ion Protection; DatasheetVersion: SLUS669G; PackageVersion: revC, Sep-2002; PackageReference: DCT8; PackageDescription: 8-Pin Thin Small Outline Package 3 x 2.8 mm Body ,0.65 mm Pitch; Supplier 1: Digi-Key; Supplier Part Number 1: 296-21377-2-ND; Supplier 2: Digi-Key; Supplier Part Number 2: 296-21377-1-ND; Supplier 3: Digi-Key; Supplier Part Number 3: 296-21377-6-ND; Supplier 4: Newark; Supplier Part Number 4: 26M8965; Supplier 5: Mouser; Supplier Part Number 5: 595-BQ29414DCTR; Eco-Plan: Green (RoHS & no Sb/Br); Li-Polymer: Y; NiCd: N; NiMH: N; Over Voltage Protection: Y; Mounting Technology: Surface Mount; Code_JEDEC: MO-187-DA; ComponentLink1Description: Datasheet; ComponentLink1URL: http://www.ti.com/general/docs/lit/getliterature.tsp?genericPartNumber=BQ29414&fileType=pdf
footprint DCT8_N (TSOP, 8-Leads, Body 3x2.8mm, Pitch 0.65mm, IPC Medium Density)
footprint DCT8_L (TSOP, 8-Leads, Body 3x2.8mm, Pitch 0.65mm, IPC High Density)
footprint DCT8_M (TSOP, 8-Leads, Body 3x2.8mm, Pitch 0.65mm, IPC Low Density)
pins: 1 OUT (out) "Output", 2 VDD (power) "Power supply", 3 CD "An external capacitor is connected to determine the programmable delay time", 4 VC4 (in) "Sense voltage input for least positive cell", 5 GND (power) "Ground pin", 6 VC3 (in) "Sense voltage input for third most positive cell", 7 VC2 (in) "Sense voltage input for second most positive cell", 8 VC1 (in) "Sense voltage input for most positive cell"

## BQ29414DCTRG4
designator U?
Secondary Over Voltage Protection for 2 to 4 Cell in Series Li-Ion / Poly (4.55 V), -40 to 110 degC, 8-pin SM8 (DCT), Green (RoHS & no Sb/Br); PartNumber: BQ29414DCTRG4; Manufacturer: Texas Instruments; Lead Acid: N; Li-Ion: Y; SubFamily: Lithium Ion Protection; DatasheetVersion: SLUS669G; PackageVersion: revC, Sep-2002; PackageReference: DCT8; PackageDescription: 8-Pin Thin Small Outline Package 3 x 2.8 mm Body ,0.65 mm Pitch; Supplier 1: Digi-Key; Supplier Part Number 1: BQ29414DCTRG4-ND; Supplier 2: Newark; Supplier Part Number 2: 28M4693; Supplier 3: Mouser; Supplier Part Number 3: 595-BQ29414DCTRG4; Eco-Plan: Green (RoHS & no Sb/Br); Li-Polymer: Y; NiCd: N; NiMH: N; Over Voltage Protection: Y; Mounting Technology: Surface Mount; Code_JEDEC: MO-187-DA; ComponentLink1Description: Datasheet; ComponentLink1URL: http://www.ti.com/general/docs/lit/getliterature.tsp?genericPartNumber=BQ29414&fileType=pdf
footprint DCT8_N (TSOP, 8-Leads, Body 3x2.8mm, Pitch 0.65mm, IPC Medium Density)
footprint DCT8_L (TSOP, 8-Leads, Body 3x2.8mm, Pitch 0.65mm, IPC High Density)
footprint DCT8_M (TSOP, 8-Leads, Body 3x2.8mm, Pitch 0.65mm, IPC Low Density)
pins: 1 OUT (out) "Output", 2 VDD (power) "Power supply", 3 CD "An external capacitor is connected to determine the programmable delay time", 4 VC4 (in) "Sense voltage input for least positive cell", 5 GND (power) "Ground pin", 6 VC3 (in) "Sense voltage input for third most positive cell", 7 VC2 (in) "Sense voltage input for second most positive cell", 8 VC1 (in) "Sense voltage input for most positive cell"

## BQ29414DCTT
designator U?
Secondary Over Voltage Protection for 2 to 4 Cell in Series Li-Ion / Poly (4.55 V), -40 to 110 degC, 8-pin SM8 (DCT), Green (RoHS & no Sb/Br); PartNumber: BQ29414DCTT; Manufacturer: Texas Instruments; Lead Acid: N; Li-Ion: Y; SubFamily: Lithium Ion Protection; DatasheetVersion: SLUS669G; PackageVersion: revC, Sep-2002; PackageReference: DCT8; PackageDescription: 8-Pin Thin Small Outline Package 3 x 2.8 mm Body ,0.65 mm Pitch; Supplier 1: Digi-Key; Supplier Part Number 1: BQ29414DCTT-ND; Supplier 2: Mouser; Supplier Part Number 2: 595-BQ29414DCTT; Eco-Plan: Green (RoHS & no Sb/Br); Li-Polymer: Y; NiCd: N; NiMH: N; Over Voltage Protection: Y; Mounting Technology: Surface Mount; Code_JEDEC: MO-187-DA; ComponentLink1Description: Datasheet; ComponentLink1URL: http://www.ti.com/general/docs/lit/getliterature.tsp?genericPartNumber=BQ29414&fileType=pdf
footprint DCT8_N (TSOP, 8-Leads, Body 3x2.8mm, Pitch 0.65mm, IPC Medium Density)
footprint DCT8_L (TSOP, 8-Leads, Body 3x2.8mm, Pitch 0.65mm, IPC High Density)
footprint DCT8_M (TSOP, 8-Leads, Body 3x2.8mm, Pitch 0.65mm, IPC Low Density)
pins: 1 OUT (out) "Output", 2 VDD (power) "Power supply", 3 CD "An external capacitor is connected to determine the programmable delay time", 4 VC4 (in) "Sense voltage input for least positive cell", 5 GND (power) "Ground pin", 6 VC3 (in) "Sense voltage input for third most positive cell", 7 VC2 (in) "Sense voltage input for second most positive cell", 8 VC1 (in) "Sense voltage input for most positive cell"

## BQ29414DCTTG4
designator U?
Secondary Over Voltage Protection for 2 to 4 Cell in Series Li-Ion / Poly (4.55 V), -40 to 110 degC, 8-pin SM8 (DCT), Green (RoHS & no Sb/Br); PartNumber: BQ29414DCTTG4; Manufacturer: Texas Instruments; Lead Acid: N; Li-Ion: Y; SubFamily: Lithium Ion Protection; DatasheetVersion: SLUS669G; PackageVersion: revC, Sep-2002; PackageReference: DCT8; PackageDescription: 8-Pin Thin Small Outline Package 3 x 2.8 mm Body ,0.65 mm Pitch; Supplier 1: Digi-Key; Supplier Part Number 1: BQ29414DCTTG4-ND; Supplier 2: Mouser; Supplier Part Number 2: 595-BQ29414DCTTG4; Eco-Plan: Green (RoHS & no Sb/Br); Li-Polymer: Y; NiCd: N; NiMH: N; Over Voltage Protection: Y; Mounting Technology: Surface Mount; Code_JEDEC: MO-187-DA; ComponentLink1Description: Datasheet; ComponentLink1URL: http://www.ti.com/general/docs/lit/getliterature.tsp?genericPartNumber=BQ29414&fileType=pdf
footprint DCT8_N (TSOP, 8-Leads, Body 3x2.8mm, Pitch 0.65mm, IPC Medium Density)
footprint DCT8_L (TSOP, 8-Leads, Body 3x2.8mm, Pitch 0.65mm, IPC High Density)
footprint DCT8_M (TSOP, 8-Leads, Body 3x2.8mm, Pitch 0.65mm, IPC Low Density)
pins: 1 OUT (out) "Output", 2 VDD (power) "Power supply", 3 CD "An external capacitor is connected to determine the programmable delay time", 4 VC4 (in) "Sense voltage input for least positive cell", 5 GND (power) "Ground pin", 6 VC3 (in) "Sense voltage input for third most positive cell", 7 VC2 (in) "Sense voltage input for second most positive cell", 8 VC1 (in) "Sense voltage input for most positive cell"

## BQ29414PW
designator U?
Secondary Over Voltage Protection for 2 to 4 Cell in Series Li-Ion / Poly (4.55 V), -40 to 110 degC, 8-pin TSSOP (PW), Green (RoHS & no Sb/Br); PartNumber: BQ29414PW; Manufacturer: Texas Instruments; Lead Acid: N; Li-Ion: Y; SubFamily: Lithium Ion Protection; DatasheetVersion: SLUS669G; PackageVersion: revG, Feb-2011; PackageReference: PW8; PackageDescription: 8-Pin Plastic Thin Small Outline Package 3 x 4.4 mm Body ,0.65 mm Pitch; Supplier 1: Digi-Key; Supplier Part Number 1: BQ29414PW-ND; Supplier 2: Farnell; Supplier Part Number 2: 1647906; Supplier 3: Newark; Supplier Part Number 3: 33P6589; Supplier 4: Newark; Supplier Part Number 4: 26M8967; Supplier 5: Mouser; Supplier Part Number 5: 595-BQ29414PW; Eco-Plan: Green (RoHS & no Sb/Br); Li-Polymer: Y; NiCd: N; NiMH: N; Over Voltage Protection: Y; Mounting Technology: Surface Mount; Code_JEDEC: MO-153; ComponentLink1Description: Datasheet; ComponentLink1URL: http://www.ti.com/general/docs/lit/getliterature.tsp?genericPartNumber=BQ29414&fileType=pdf
footprint PW8_N (TSOP, 8-Leads, Body 3x4.4mm, Pitch 0.65mm, IPC Medium Density)
footprint PW8_L (TSOP, 8-Leads, Body 3x4.4mm, Pitch 0.65mm, IPC High Density)
footprint PW8_M (TSOP, 8-Leads, Body 3x4.4mm, Pitch 0.65mm, IPC Low Density)
pins: 1 VC1 (in) "Sense voltage input for most positive cell", 2 VC2 (in) "Sense voltage input for second most positive cell", 3 VC3 (in) "Sense voltage input for third most positive cell", 4 GND (power) "Ground pin", 5 VC4 (in) "Sense voltage input for least positive cell", 6 CD "An external capacitor is connected to determine the programmable delay time", 7 VDD (power) "Power supply", 8 OUT (out) "Output"

## BQ29414PWG4
designator U?
Secondary Over Voltage Protection for 2 to 4 Cell in Series Li-Ion / Poly (4.55 V), -40 to 110 degC, 8-pin TSSOP (PW), Green (RoHS & no Sb/Br); PartNumber: BQ29414PWG4; Manufacturer: Texas Instruments; Lead Acid: N; Li-Ion: Y; SubFamily: Lithium Ion Protection; DatasheetVersion: SLUS669G; PackageVersion: revG, Feb-2011; PackageReference: PW8; PackageDescription: 8-Pin Plastic Thin Small Outline Package 3 x 4.4 mm Body ,0.65 mm Pitch; Supplier 1: Digi-Key; Supplier Part Number 1: BQ29414PWG4-ND; Supplier 2: Mouser; Supplier Part Number 2: 595-BQ29414PWG4; Eco-Plan: Green (RoHS & no Sb/Br); Li-Polymer: Y; NiCd: N; NiMH: N; Over Voltage Protection: Y; Mounting Technology: Surface Mount; Code_JEDEC: MO-153; ComponentLink1Description: Datasheet; ComponentLink1URL: http://www.ti.com/general/docs/lit/getliterature.tsp?genericPartNumber=BQ29414&fileType=pdf
footprint PW8_N (TSOP, 8-Leads, Body 3x4.4mm, Pitch 0.65mm, IPC Medium Density)
footprint PW8_L (TSOP, 8-Leads, Body 3x4.4mm, Pitch 0.65mm, IPC High Density)
footprint PW8_M (TSOP, 8-Leads, Body 3x4.4mm, Pitch 0.65mm, IPC Low Density)
pins: 1 VC1 (in) "Sense voltage input for most positive cell", 2 VC2 (in) "Sense voltage input for second most positive cell", 3 VC3 (in) "Sense voltage input for third most positive cell", 4 GND (power) "Ground pin", 5 VC4 (in) "Sense voltage input for least positive cell", 6 CD "An external capacitor is connected to determine the programmable delay time", 7 VDD (power) "Power supply", 8 OUT (out) "Output"

## BQ29414PWR
designator U?
Secondary Over Voltage Protection for 2 to 4 Cell in Series Li-Ion / Poly (4.55 V), -40 to 110 degC, 8-pin TSSOP (PW), Green (RoHS & no Sb/Br); PartNumber: BQ29414PWR; Manufacturer: Texas Instruments; Lead Acid: N; Li-Ion: Y; SubFamily: Lithium Ion Protection; DatasheetVersion: SLUS669G; PackageVersion: revG, Feb-2011; PackageReference: PW8; PackageDescription: 8-Pin Plastic Thin Small Outline Package 3 x 4.4 mm Body ,0.65 mm Pitch; Supplier 1: Digi-Key; Supplier Part Number 1: 296-21378-2-ND; Supplier 2: Digi-Key; Supplier Part Number 2: 296-21378-1-ND; Supplier 3: Digi-Key; Supplier Part Number 3: 296-21378-6-ND; Supplier 4: Newark; Supplier Part Number 4: 26M8968; Supplier 5: Mouser; Supplier Part Number 5: 595-BQ29414PWR; Eco-Plan: Green (RoHS & no Sb/Br); Li-Polymer: Y; NiCd: N; NiMH: N; Over Voltage Protection: Y; Mounting Technology: Surface Mount; Code_JEDEC: MO-153; ComponentLink1Description: Datasheet; ComponentLink1URL: http://www.ti.com/general/docs/lit/getliterature.tsp?genericPartNumber=BQ29414&fileType=pdf
footprint PW8_N (TSOP, 8-Leads, Body 3x4.4mm, Pitch 0.65mm, IPC Medium Density)
footprint PW8_L (TSOP, 8-Leads, Body 3x4.4mm, Pitch 0.65mm, IPC High Density)
footprint PW8_M (TSOP, 8-Leads, Body 3x4.4mm, Pitch 0.65mm, IPC Low Density)
pins: 1 VC1 (in) "Sense voltage input for most positive cell", 2 VC2 (in) "Sense voltage input for second most positive cell", 3 VC3 (in) "Sense voltage input for third most positive cell", 4 GND (power) "Ground pin", 5 VC4 (in) "Sense voltage input for least positive cell", 6 CD "An external capacitor is connected to determine the programmable delay time", 7 VDD (power) "Power supply", 8 OUT (out) "Output"

## BQ29414PWRG4
designator U?
Secondary Over Voltage Protection for 2 to 4 Cell in Series Li-Ion / Poly (4.55 V), -40 to 110 degC, 8-pin TSSOP (PW), Green (RoHS & no Sb/Br); PartNumber: BQ29414PWRG4; Manufacturer: Texas Instruments; Lead Acid: N; Li-Ion: Y; SubFamily: Lithium Ion Protection; DatasheetVersion: SLUS669G; PackageVersion: revG, Feb-2011; PackageReference: PW8; PackageDescription: 8-Pin Plastic Thin Small Outline Package 3 x 4.4 mm Body ,0.65 mm Pitch; Supplier 1: Digi-Key; Supplier Part Number 1: BQ29414PWRG4-ND; Supplier 2: Newark; Supplier Part Number 2: 28M4696; Supplier 3: Mouser; Supplier Part Number 3: 595-BQ29414PWRG4; Eco-Plan: Green (RoHS & no Sb/Br); Li-Polymer: Y; NiCd: N; NiMH: N; Over Voltage Protection: Y; Mounting Technology: Surface Mount; Code_JEDEC: MO-153; ComponentLink1Description: Datasheet; ComponentLink1URL: http://www.ti.com/general/docs/lit/getliterature.tsp?genericPartNumber=BQ29414&fileType=pdf
footprint PW8_N (TSOP, 8-Leads, Body 3x4.4mm, Pitch 0.65mm, IPC Medium Density)
footprint PW8_L (TSOP, 8-Leads, Body 3x4.4mm, Pitch 0.65mm, IPC High Density)
footprint PW8_M (TSOP, 8-Leads, Body 3x4.4mm, Pitch 0.65mm, IPC Low Density)
pins: 1 VC1 (in) "Sense voltage input for most positive cell", 2 VC2 (in) "Sense voltage input for second most positive cell", 3 VC3 (in) "Sense voltage input for third most positive cell", 4 GND (power) "Ground pin", 5 VC4 (in) "Sense voltage input for least positive cell", 6 CD "An external capacitor is connected to determine the programmable delay time", 7 VDD (power) "Power supply", 8 OUT (out) "Output"

## BQ29415DCTR
designator U?
Secondary Over Voltage Protection for 2 to 4 Cell in Series Li-Ion / Poly (4.60 V), -40 to 110 degC, 8-pin SM8 (DCT), Green (RoHS & no Sb/Br); PartNumber: BQ29415DCTR; Manufacturer: Texas Instruments; Lead Acid: N; Li-Ion: Y; SubFamily: Lithium Ion Protection; DatasheetVersion: SLUS669G; PackageVersion: revC, Sep-2002; PackageReference: DCT8; PackageDescription: 8-Pin Thin Small Outline Package 3 x 2.8 mm Body ,0.65 mm Pitch; Supplier 1: Digi-Key; Supplier Part Number 1: 296-21379-2-ND; Supplier 2: Digi-Key; Supplier Part Number 2: 296-21379-1-ND; Supplier 3: Digi-Key; Supplier Part Number 3: 296-21379-6-ND; Supplier 4: Newark; Supplier Part Number 4: 26M8969; Supplier 5: Mouser; Supplier Part Number 5: 595-BQ29415DCTR; Eco-Plan: Green (RoHS & no Sb/Br); Li-Polymer: Y; NiCd: N; NiMH: N; Over Voltage Protection: Y; Mounting Technology: Surface Mount; Code_JEDEC: MO-187-DA; ComponentLink1Description: Datasheet; ComponentLink1URL: http://www.ti.com/general/docs/lit/getliterature.tsp?genericPartNumber=BQ29415&fileType=pdf
footprint DCT8_N (TSOP, 8-Leads, Body 3x2.8mm, Pitch 0.65mm, IPC Medium Density)
footprint DCT8_L (TSOP, 8-Leads, Body 3x2.8mm, Pitch 0.65mm, IPC High Density)
footprint DCT8_M (TSOP, 8-Leads, Body 3x2.8mm, Pitch 0.65mm, IPC Low Density)
pins: 1 OUT (out) "Output", 2 VDD (power) "Power supply", 3 CD "An external capacitor is connected to determine the programmable delay time", 4 VC4 (in) "Sense voltage input for least positive cell", 5 GND (power) "Ground pin", 6 VC3 (in) "Sense voltage input for third most positive cell", 7 VC2 (in) "Sense voltage input for second most positive cell", 8 VC1 (in) "Sense voltage input for most positive cell"

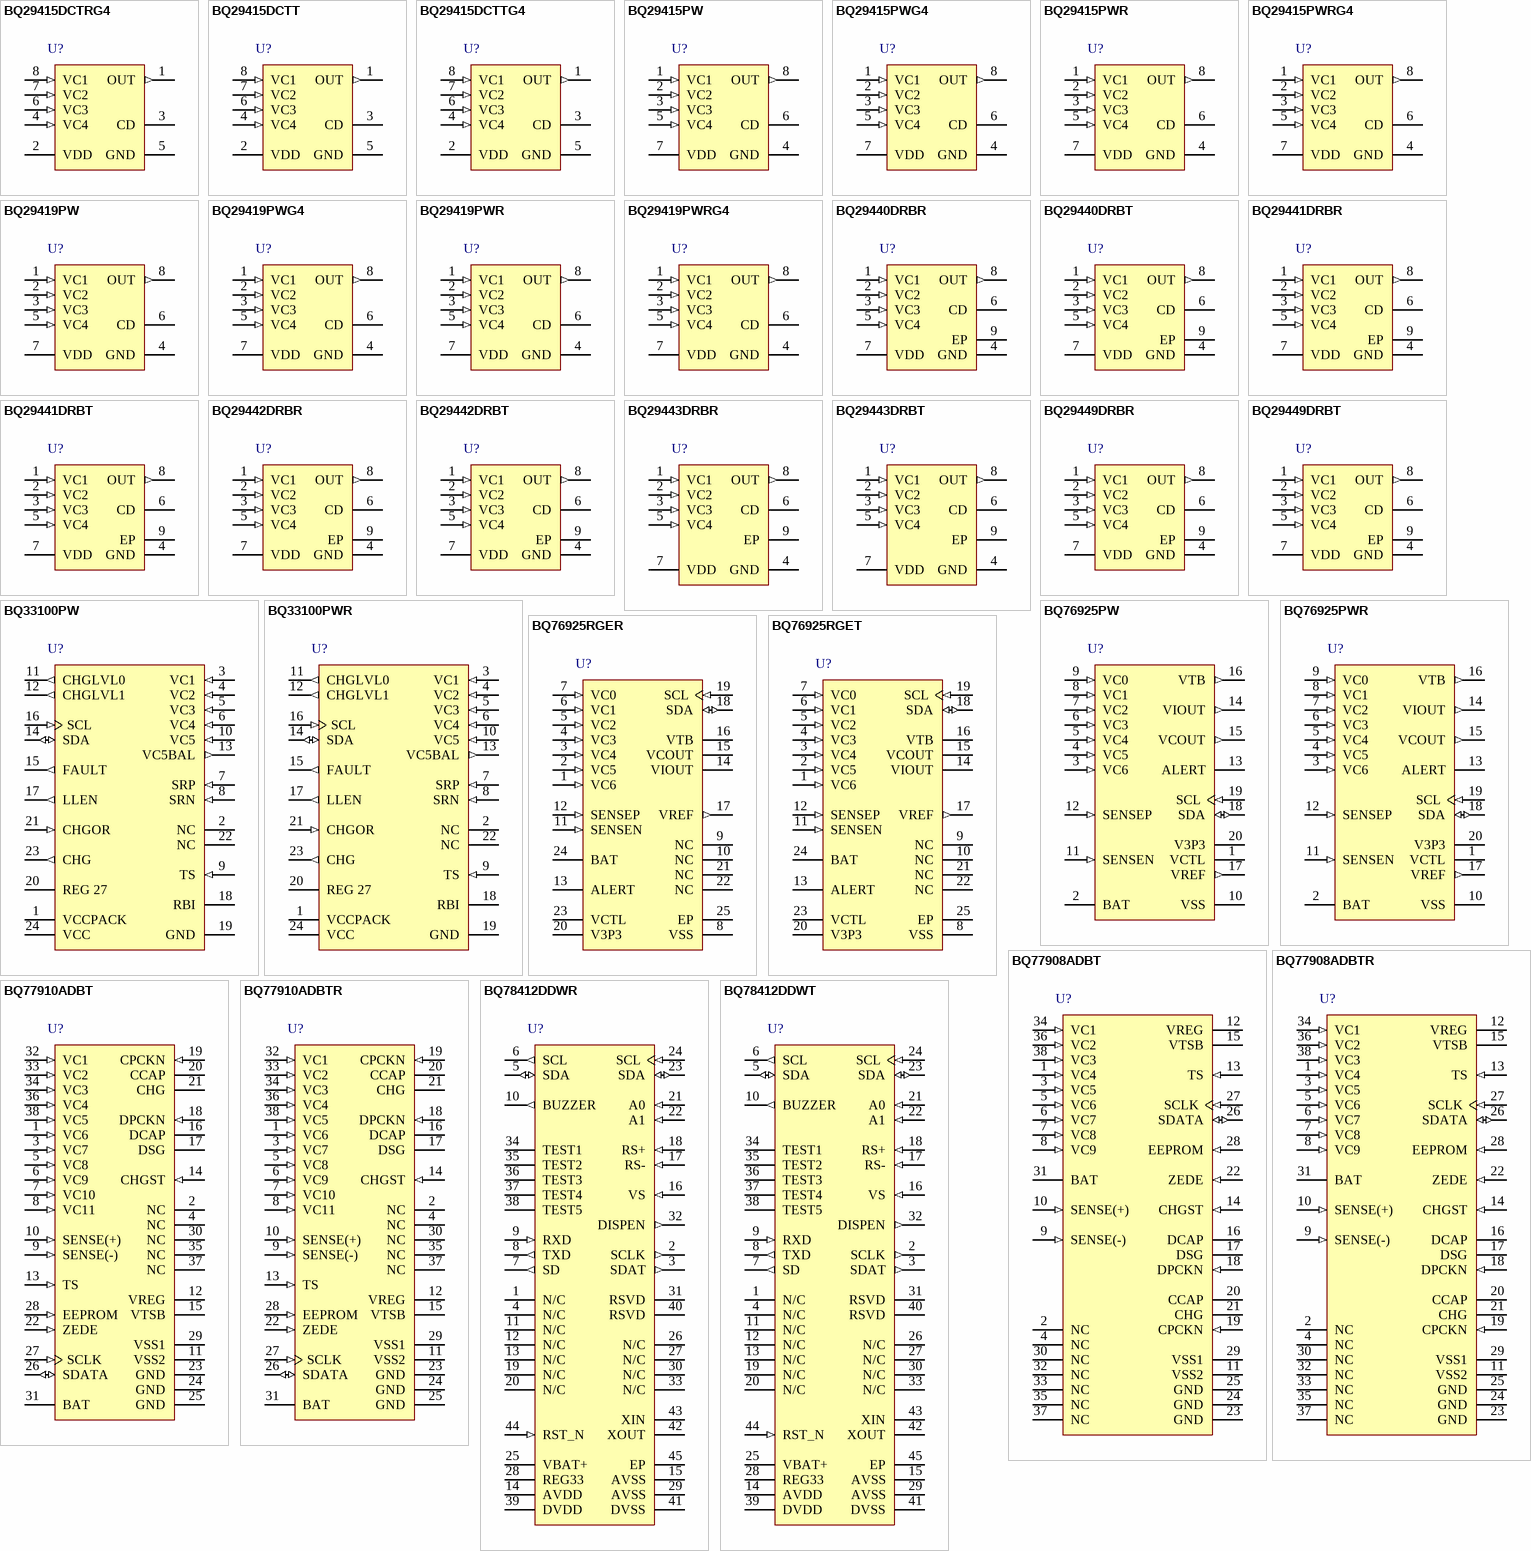
[diagram p32: symbols BQ29415DCTRG4 to BQ78412DDWT]

## BQ29415DCTRG4
designator U?
Secondary Over Voltage Protection for 2 to 4 Cell in Series Li-Ion / Poly (4.60 V), -40 to 110 degC, 8-pin SM8 (DCT), Green (RoHS & no Sb/Br); PartNumber: BQ29415DCTRG4; Manufacturer: Texas Instruments; Lead Acid: N; Li-Ion: Y; SubFamily: Lithium Ion Protection; DatasheetVersion: SLUS669G; PackageVersion: revC, Sep-2002; PackageReference: DCT8; PackageDescription: 8-Pin Thin Small Outline Package 3 x 2.8 mm Body ,0.65 mm Pitch; Supplier 1: Digi-Key; Supplier Part Number 1: BQ29415DCTRG4-ND; Supplier 2: Newark; Supplier Part Number 2: 28M4697; Supplier 3: Mouser; Supplier Part Number 3: 595-BQ29415DCTRG4; Eco-Plan: Green (RoHS & no Sb/Br); Li-Polymer: Y; NiCd: N; NiMH: N; Over Voltage Protection: Y; Mounting Technology: Surface Mount; Code_JEDEC: MO-187-DA; ComponentLink1Description: Datasheet; ComponentLink1URL: http://www.ti.com/general/docs/lit/getliterature.tsp?genericPartNumber=BQ29415&fileType=pdf
footprint DCT8_N (TSOP, 8-Leads, Body 3x2.8mm, Pitch 0.65mm, IPC Medium Density)
footprint DCT8_L (TSOP, 8-Leads, Body 3x2.8mm, Pitch 0.65mm, IPC High Density)
footprint DCT8_M (TSOP, 8-Leads, Body 3x2.8mm, Pitch 0.65mm, IPC Low Density)
pins: 1 OUT (out) "Output", 2 VDD (power) "Power supply", 3 CD "An external capacitor is connected to determine the programmable delay time", 4 VC4 (in) "Sense voltage input for least positive cell", 5 GND (power) "Ground pin", 6 VC3 (in) "Sense voltage input for third most positive cell", 7 VC2 (in) "Sense voltage input for second most positive cell", 8 VC1 (in) "Sense voltage input for most positive cell"

## BQ29415DCTT
designator U?
Secondary Over Voltage Protection for 2 to 4 Cell in Series Li-Ion / Poly (4.60 V), -40 to 110 degC, 8-pin SM8 (DCT), Green (RoHS & no Sb/Br); PartNumber: BQ29415DCTT; Manufacturer: Texas Instruments; Lead Acid: N; Li-Ion: Y; SubFamily: Lithium Ion Protection; DatasheetVersion: SLUS669G; PackageVersion: revC, Sep-2002; PackageReference: DCT8; PackageDescription: 8-Pin Thin Small Outline Package 3 x 2.8 mm Body ,0.65 mm Pitch; Supplier 1: Digi-Key; Supplier Part Number 1: BQ29415DCTT-ND; Supplier 2: Newark; Supplier Part Number 2: 26M8970; Supplier 3: Mouser; Supplier Part Number 3: 595-BQ29415DCTT; Eco-Plan: Green (RoHS & no Sb/Br); Li-Polymer: Y; NiCd: N; NiMH: N; Over Voltage Protection: Y; Mounting Technology: Surface Mount; Code_JEDEC: MO-187-DA; ComponentLink1Description: Datasheet; ComponentLink1URL: http://www.ti.com/general/docs/lit/getliterature.tsp?genericPartNumber=BQ29415&fileType=pdf
footprint DCT8_N (TSOP, 8-Leads, Body 3x2.8mm, Pitch 0.65mm, IPC Medium Density)
footprint DCT8_L (TSOP, 8-Leads, Body 3x2.8mm, Pitch 0.65mm, IPC High Density)
footprint DCT8_M (TSOP, 8-Leads, Body 3x2.8mm, Pitch 0.65mm, IPC Low Density)
pins: 1 OUT (out) "Output", 2 VDD (power) "Power supply", 3 CD "An external capacitor is connected to determine the programmable delay time", 4 VC4 (in) "Sense voltage input for least positive cell", 5 GND (power) "Ground pin", 6 VC3 (in) "Sense voltage input for third most positive cell", 7 VC2 (in) "Sense voltage input for second most positive cell", 8 VC1 (in) "Sense voltage input for most positive cell"

## BQ29415DCTTG4
designator U?
Secondary Over Voltage Protection for 2 to 4 Cell in Series Li-Ion / Poly (4.60 V), -40 to 110 degC, 8-pin SM8 (DCT), Green (RoHS & no Sb/Br); PartNumber: BQ29415DCTTG4; Manufacturer: Texas Instruments; Lead Acid: N; Li-Ion: Y; SubFamily: Lithium Ion Protection; DatasheetVersion: SLUS669G; PackageVersion: revC, Sep-2002; PackageReference: DCT8; PackageDescription: 8-Pin Thin Small Outline Package 3 x 2.8 mm Body ,0.65 mm Pitch; Supplier 1: Digi-Key; Supplier Part Number 1: BQ29415DCTTG4-ND; Supplier 2: Newark; Supplier Part Number 2: 28M4698; Supplier 3: Mouser; Supplier Part Number 3: 595-BQ29415DCTTG4; Eco-Plan: Green (RoHS & no Sb/Br); Li-Polymer: Y; NiCd: N; NiMH: N; Over Voltage Protection: Y; Mounting Technology: Surface Mount; Code_JEDEC: MO-187-DA; ComponentLink1Description: Datasheet; ComponentLink1URL: http://www.ti.com/general/docs/lit/getliterature.tsp?genericPartNumber=BQ29415&fileType=pdf
footprint DCT8_N (TSOP, 8-Leads, Body 3x2.8mm, Pitch 0.65mm, IPC Medium Density)
footprint DCT8_L (TSOP, 8-Leads, Body 3x2.8mm, Pitch 0.65mm, IPC High Density)
footprint DCT8_M (TSOP, 8-Leads, Body 3x2.8mm, Pitch 0.65mm, IPC Low Density)
pins: 1 OUT (out) "Output", 2 VDD (power) "Power supply", 3 CD "An external capacitor is connected to determine the programmable delay time", 4 VC4 (in) "Sense voltage input for least positive cell", 5 GND (power) "Ground pin", 6 VC3 (in) "Sense voltage input for third most positive cell", 7 VC2 (in) "Sense voltage input for second most positive cell", 8 VC1 (in) "Sense voltage input for most positive cell"

## BQ29415PW
designator U?
Secondary Over Voltage Protection for 2 to 4 Cell in Series Li-Ion / Poly (4.60 V), -40 to 110 degC, 8-pin TSSOP (PW), Green (RoHS & no Sb/Br); PartNumber: BQ29415PW; Manufacturer: Texas Instruments; Lead Acid: N; Li-Ion: Y; SubFamily: Lithium Ion Protection; DatasheetVersion: SLUS669G; PackageVersion: revG, Feb-2011; PackageReference: PW8; PackageDescription: 8-Pin Plastic Thin Small Outline Package 3 x 4.4 mm Body ,0.65 mm Pitch; Supplier 1: Digi-Key; Supplier Part Number 1: BQ29415PW-ND; Supplier 2: Mouser; Supplier Part Number 2: 595-BQ29415PW; Eco-Plan: Green (RoHS & no Sb/Br); Li-Polymer: Y; NiCd: N; NiMH: N; Over Voltage Protection: Y; Mounting Technology: Surface Mount; Code_JEDEC: MO-153; ComponentLink1Description: Datasheet; ComponentLink1URL: http://www.ti.com/general/docs/lit/getliterature.tsp?genericPartNumber=BQ29415&fileType=pdf
footprint PW8_N (TSOP, 8-Leads, Body 3x4.4mm, Pitch 0.65mm, IPC Medium Density)
footprint PW8_L (TSOP, 8-Leads, Body 3x4.4mm, Pitch 0.65mm, IPC High Density)
footprint PW8_M (TSOP, 8-Leads, Body 3x4.4mm, Pitch 0.65mm, IPC Low Density)
pins: 1 VC1 (in) "Sense voltage input for most positive cell", 2 VC2 (in) "Sense voltage input for second most positive cell", 3 VC3 (in) "Sense voltage input for third most positive cell", 4 GND (power) "Ground pin", 5 VC4 (in) "Sense voltage input for least positive cell", 6 CD "An external capacitor is connected to determine the programmable delay time", 7 VDD (power) "Power supply", 8 OUT (out) "Output"